# Altium schematic symbol library TL497A.SchLib: 1 symbol
Pins are listed as number, name and electrical type; pins without a type are passive.

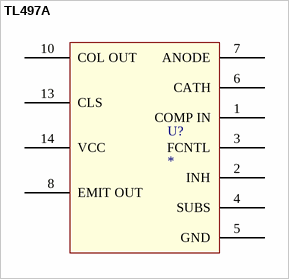
[diagram p0: symbol TL497A]

## TL497A
designator U?
pins: 1 COMP IN, 2 INH, 3 FCNTL, 4 SUBS, 5 GND, 6 CATH, 7 ANODE, 8 EMIT OUT, 10 COL OUT, 13 CLS, 14 VCC